# EAGLE library part MAX485 (library MAX485)
Check prices <https://pricing.snapeda.com/parts/MAX485/Maxim%20Integrated/view-part?ref=eda>
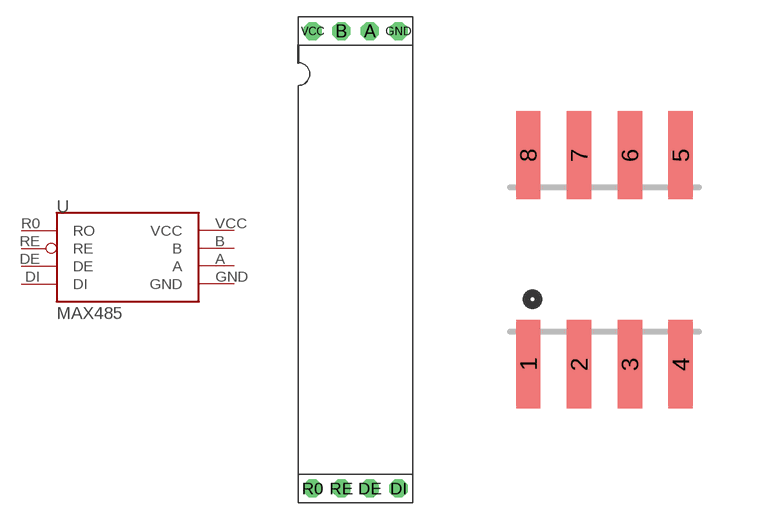
[diagram p0: symbol with the pads of DIL08; footprints DIL08, SO08]

Designator prefix U

## MAX485DIL (AVAILABILITY: In Stock; DESCRIPTION: MAX4850 DUAL SPDT ANALOG SWITCH; MF: Maxim Integrated; MP: MAX485; PACKAGE: None; PRICE: None; PURCHASE-URL: https://pricing.snapeda.com/search/part/MAX485/?ref=eda)  [DIL08]
A  A
B  B
DE  DE
DI  DI
GND  GND
R0  RO
RE  RE
VCC  VCC

## MAX485 (AVAILABILITY: In Stock; DESCRIPTION: MAX4850 DUAL SPDT ANALOG SWITCH; MF: Maxim Integrated; MP: MAX485; PACKAGE: None; PRICE: None; PURCHASE-URL: https://pricing.snapeda.com/search/part/MAX485/?ref=eda)  [SO08]
1  RO
2  RE
3  DE
4  DI
5  GND
6  A
7  B
8  VCC

## MAX485MAX485  [DIL08]
Pads as for DIL08

## Footprint DIL08 (pad centres in mm)
Dual In Line
drill 0.813 pad 1.6 octagon: A 1.27,3.81; B -1.27,3.81; DE 1.27,-36.83; DI 3.81,-36.83; GND 3.81,3.81; R0 -3.81,-36.83; RE -1.27,-36.83; VCC -3.81,3.81

## Footprint SO08 (pad centres in mm)
Small Outline Package Fits JEDEC packages (narrow SOIC-8)
smd 0.61 x 2.21: 1 -1.905,-2.616; 2 -0.635,-2.616; 3 0.635,-2.616; 4 1.905,-2.616; 5 1.905,2.616; 6 0.635,2.616; 7 -0.635,2.616; 8 -1.905,2.616